# EAGLE library part MC14001BDG (library Labops_Lib_AH)
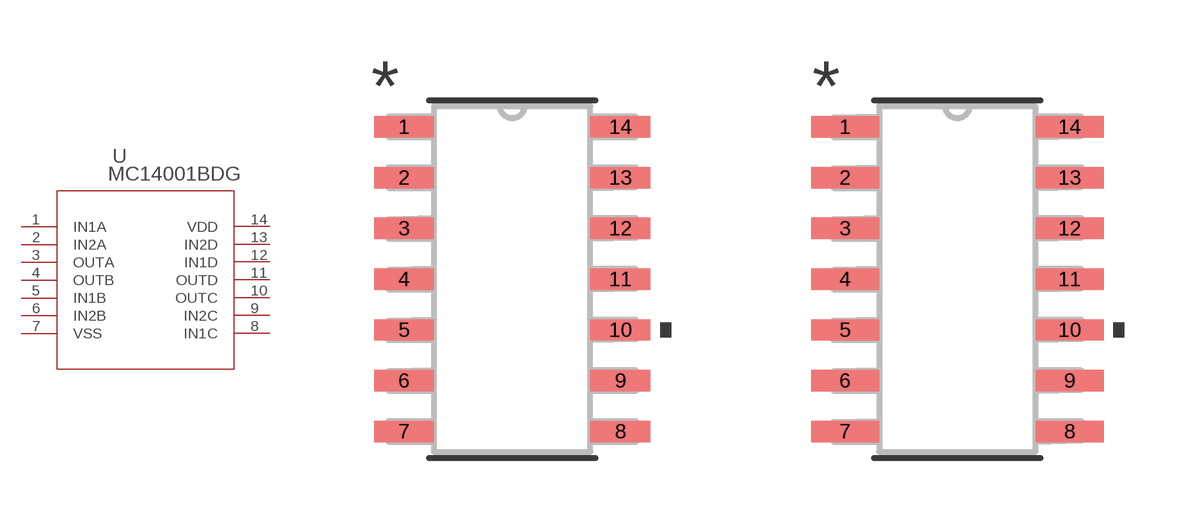
[diagram p55: symbol with the pads of SOIC-14_NB_ONS; footprints SOIC-14_NB_ONS, SOIC-14_NB_ONS-M]

Designator prefix U

## MC14001BDG (COPYRIGHT: Copyright (C) 2016 Accelerated Designs. All rights reserved; MANUFACTURER_PART_NUMBER: MC14001BDG; SOURCELIBRARY: ONSemi_2017-12-12_1; VENDOR: ON Semiconductor)  [SOIC-14_NB_ONS]
1  IN1A  in
2  IN2A  in
3  OUTA  out
4  OUTB  out
5  IN1B  in
6  IN2B  in
7  VSS  pwr
8  IN1C  in
9  IN2C  in
10  OUTC  out
11  OUTD  out
12  IN1D  in
13  IN2D  in
14  VDD  pwr

## MC14001BDGSOIC-14_NB_ONS-M (COPYRIGHT: Copyright (C) 2016 Accelerated Designs. All rights reserved; MANUFACTURER_PART_NUMBER: MC14001BDG; SOURCELIBRARY: ONSemi_2017-12-12_1; VENDOR: ON Semiconductor)  [SOIC-14_NB_ONS-M]
Pads as for SOIC-14_NB_ONS

## MC14001BDGSOIC-14_NB_ONS-L (COPYRIGHT: Copyright (C) 2016 Accelerated Designs. All rights reserved; MANUFACTURER_PART_NUMBER: MC14001BDG; SOURCELIBRARY: ONSemi_2017-12-12_1; VENDOR: ON Semiconductor)  [SOIC-14_NB_ONS-L]
Pads as for SOIC-14_NB_ONS

## Footprint SOIC-14_NB_ONS (pad centres in mm)
smd 1.499 x 0.533: 1 -2.705,3.81; 2 -2.705,2.54; 3 -2.705,1.27; 4 -2.705,0; 5 -2.705,-1.27; 6 -2.705,-2.54; 7 -2.705,-3.81; 8 2.705,-3.81; 9 2.705,-2.54; 10 2.705,-1.27; 11 2.705,0; 12 2.705,1.27; 13 2.705,2.54; 14 2.705,3.81

## Footprint SOIC-14_NB_ONS-M (pad centres in mm)
smd 1.702 x 0.533: 1 -2.807,3.81; 2 -2.807,2.54; 3 -2.807,1.27; 4 -2.807,0; 5 -2.807,-1.27; 6 -2.807,-2.54; 7 -2.807,-3.81; 8 2.807,-3.81; 9 2.807,-2.54; 10 2.807,-1.27; 11 2.807,0; 12 2.807,1.27; 13 2.807,2.54; 14 2.807,3.81

## Footprint SOIC-14_NB_ONS-L (pad centres in mm)
smd 1.295 x 0.483: 1 -2.603,3.81; 2 -2.603,2.54; 3 -2.603,1.27; 4 -2.603,0; 5 -2.603,-1.27; 6 -2.603,-2.54; 7 -2.603,-3.81; 8 2.603,-3.81; 9 2.603,-2.54; 10 2.603,-1.27; 11 2.603,0; 12 2.603,1.27; 13 2.603,2.54; 14 2.603,3.81